# Altium schematic symbol library S202M29Z5UN63L6R.SchLib: 1 symbol
Pins are listed as number, name and electrical type; pins without a type are passive.

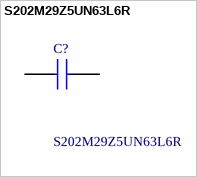
[diagram p0: symbol S202M29Z5UN63L6R]

## S202M29Z5UN63L6R
designator C?
Cap Ceramic Single 0.002uF 1000V Z5U 20% (7.5 X 4mm) Radial 6.4mm 125C Bulk; Manufacturer_Name: Vishay; Geometry.Height: 7.5mm; Mouser Part Number: 594-S202M29Z5UN63L6R; Mouser Price/Stock: https://www.mouser.co.uk/ProductDetail/Vishay-BC-Components/S202M29Z5UN63L6R?qs=a%252BZougrH3egAymutgjauOw%3D%3D; Manufacturer_Part_Number: S202M29Z5UN63L6R; Datasheet Link: https://www.mouser.co.uk/datasheet/2/427/sseries-1762239.pdf
footprint S202M29Z5UN63L6R
pins: 1, 2